# EAGLE library part 0TG-LIB-V01.5_CON_SWD_POGO (library TG-Watch02B-rev04)
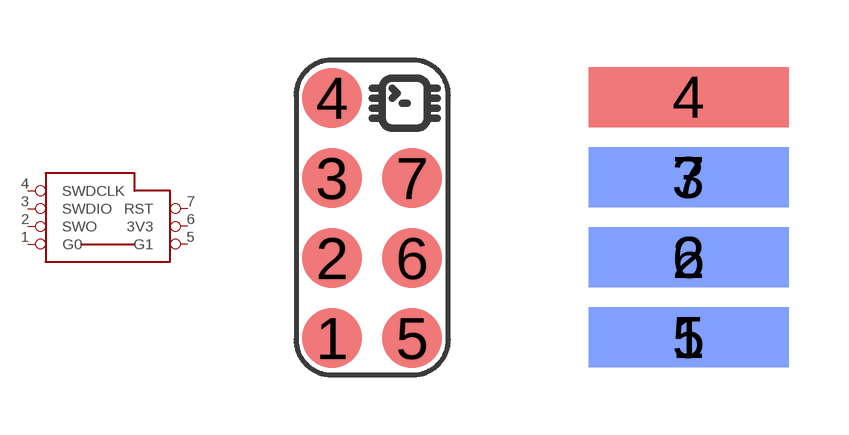
[diagram p3: symbol with the pads of 0TG-LIB-V01.5_SWD_POGO; footprints 0TG-LIB-V01.5_SWD_POGO, 0TG-LIB-V01.5_SWD_POGO-PROGER-BARE]

Designator prefix -

## 0TG-LIB-V01.5_CON_SWD_POGO  [0TG-LIB-V01.5_SWD_POGO]
1  G0
2  SWO
3  SWDIO
4  SWDCLK
5  G1
6  3V3
7  RST

## 0TG-LIB-V01.5_CON_SWD_POGOBARE  [0TG-LIB-V01.5_SWD_POGO-PROGER-BARE]
Pads as for 0TG-LIB-V01.5_SWD_POGO

## 0TG-LIB-V01.5_CON_SWD_POGOPROGER  [0TG-LIB-V01.5_SWD_POGO-PROGER]
Pads as for 0TG-LIB-V01.5_SWD_POGO

## Footprint 0TG-LIB-V01.5_SWD_POGO (pad centres in mm)
smd 1.5 x 1.5: 1 -1,-2; 2 -1,0; 3 -1,2; 4 -1,4; 5 1,-2; 6 1,0; 7 1,2

## Footprint 0TG-LIB-V01.5_SWD_POGO-PROGER-BARE (pad centres in mm)
smd 5 x 1.5: 1 0,-3; 2 0,-1; 3 0,1; 4 0,3
smd 5 x 1.5 bottom: 5 0,-3; 6 0,-1; 7 0,1

## Footprint 0TG-LIB-V01.5_SWD_POGO-PROGER (pad centres in mm)
smd 5 x 1.5: 1 4,-3; 2 4,-1; 3 4,1; 4 4,3
smd 5 x 1.5 bottom: 5 4,-3; 6 4,-1; 7 4,1